# EAGLE library part 1X6_MALE_HEADER_0.1 (library Connectors)
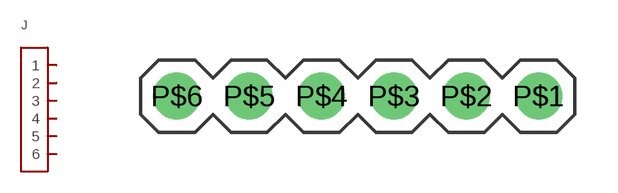
[diagram p0: symbol with the pads of 1X6_MALE_HEADER_0.1; footprint 1X6_MALE_HEADER_0.1]

Designator prefix J

## 1X6_MALE_HEADER_0.1  [1X6_MALE_HEADER_0.1]
P$1  1  pas
P$2  2  pas
P$3  3  pas
P$4  4  pas
P$5  5  pas
P$6  6  pas

## Footprint 1X6_MALE_HEADER_0.1 (pad centres in mm)
drill 1.1: P$1 6.35,0; P$2 3.81,0; P$3 1.27,0; P$4 -1.27,0; P$5 -3.81,0; P$6 -6.35,0